# EAGLE library part XS1_L1_64LQFP (library CSEDIT-SparkFun-Old)
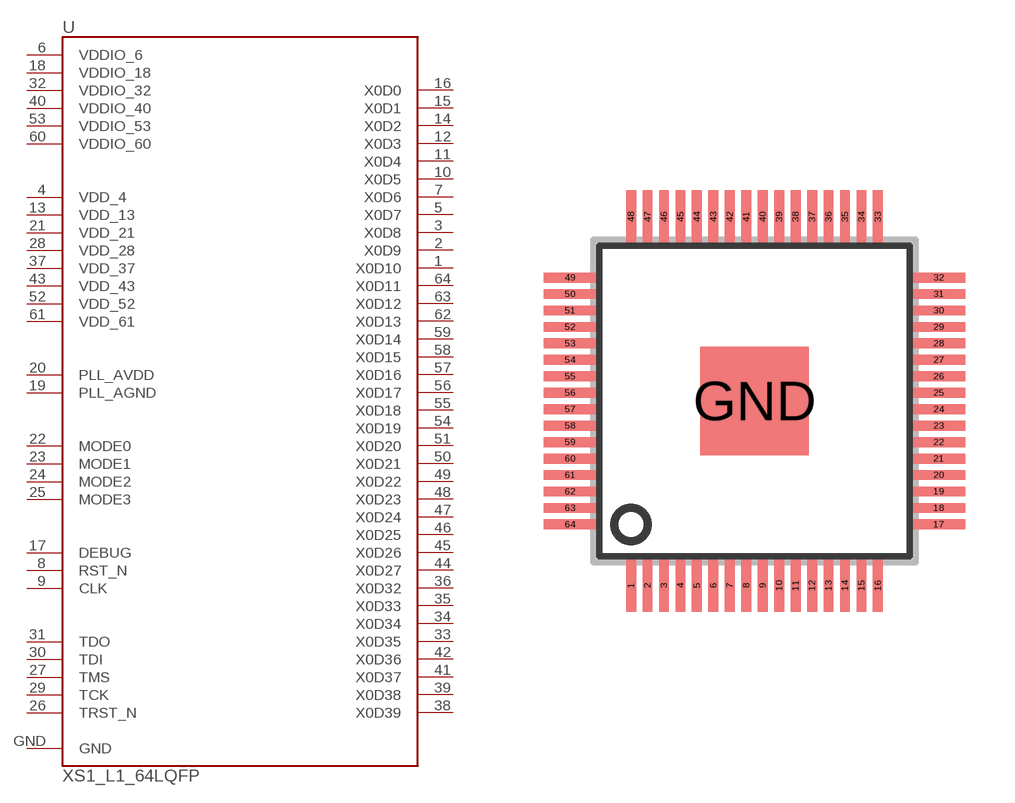
[diagram p230: symbol with the pads of SQFP-S-10X10-64-XS1; footprint SQFP-S-10X10-64-XS1]

Designator prefix -

## XS1_L1_64LQFP  [SQFP-S-10X10-64-XS1]
1  X0D10
2  X0D9
3  X0D8
4  VDD_4
5  X0D7
6  VDDIO_6
7  X0D6
8  RST_N
9  CLK
10  X0D5
11  X0D4
12  X0D3
13  VDD_13
14  X0D2
15  X0D1
16  X0D0
17  DEBUG
18  VDDIO_18
19  PLL_AGND
20  PLL_AVDD
21  VDD_21
22  MODE0
23  MODE1
24  MODE2
25  MODE3
26  TRST_N
27  TMS
28  VDD_28
29  TCK
30  TDI
31  TDO
32  VDDIO_32
33  X0D35
34  X0D34
35  X0D33
36  X0D32
37  VDD_37
38  X0D39
39  X0D38
40  VDDIO_40
41  X0D37
42  X0D36
43  VDD_43
44  X0D27
45  X0D26
46  X0D25
47  X0D24
48  X0D23
49  X0D22
50  X0D21
51  X0D20
52  VDD_52
53  VDDIO_53
54  X0D19
55  X0D18
56  X0D17
57  X0D16
58  X0D15
59  X0D14
60  VDDIO_60
61  VDD_61
62  X0D13
63  X0D12
64  X0D11
GND  GND

## Footprint SQFP-S-10X10-64-XS1 (pad centres in mm)
smd 0.3 x 1.6: 1 -3.75,-5.6; 2 -3.25,-5.6; 3 -2.75,-5.6; 4 -2.25,-5.6; 5 -1.75,-5.6; 6 -1.25,-5.6; 7 -0.75,-5.6; 8 -0.25,-5.6; 9 0.25,-5.6; 10 0.75,-5.6; 11 1.25,-5.6; 12 1.75,-5.6; 13 2.25,-5.6; 14 2.75,-5.6; 15 3.25,-5.6; 16 3.75,-5.6; 33 3.75,5.6; 34 3.25,5.6; 35 2.75,5.6; 36 2.25,5.6; 37 1.75,5.6; 38 1.25,5.6; 39 0.75,5.6; 40 0.25,5.6; 41 -0.25,5.6; 42 -0.75,5.6; 43 -1.25,5.6; 44 -1.75,5.6; 45 -2.25,5.6; 46 -2.75,5.6; 47 -3.25,5.6; 48 -3.75,5.6
smd 1.6 x 0.3: 17 5.6,-3.75; 18 5.6,-3.25; 19 5.6,-2.75; 20 5.6,-2.25; 21 5.6,-1.75; 22 5.6,-1.25; 23 5.6,-0.75; 24 5.6,-0.25; 25 5.6,0.25; 26 5.6,0.75; 27 5.6,1.25; 28 5.6,1.75; 29 5.6,2.25; 30 5.6,2.75; 31 5.6,3.25; 32 5.6,3.75; 49 -5.6,3.75; 50 -5.6,3.25; 51 -5.6,2.75; 52 -5.6,2.25; 53 -5.6,1.75; 54 -5.6,1.25; 55 -5.6,0.75; 56 -5.6,0.25; 57 -5.6,-0.25; 58 -5.6,-0.75; 59 -5.6,-1.25; 60 -5.6,-1.75; 61 -5.6,-2.25; 62 -5.6,-2.75; 63 -5.6,-3.25; 64 -5.6,-3.75
smd 3.3 x 3.3: GND 0,0